# EAGLE library part MICRO-PHILIPS_TJA1040T (library eagle-template-export)
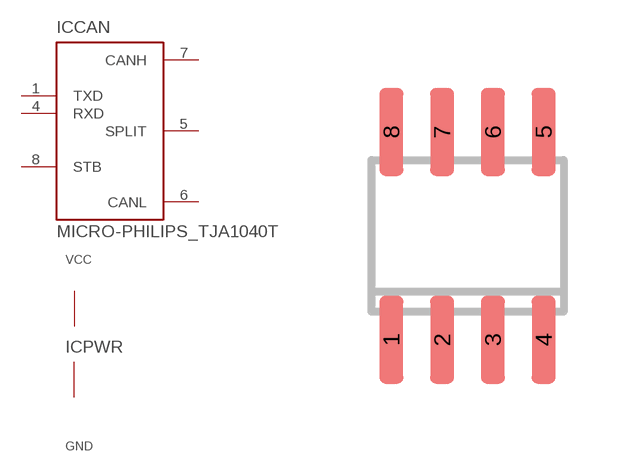
[diagram p8: symbol with the pads of MICRO-PHILIPS_SO8; footprint MICRO-PHILIPS_SO8]

Designator prefix IC; gates CAN=MICRO-PHILIPS_TJA1040T PWR=MICRO-PHILIPS_PWR2

## MICRO-PHILIPS_TJA1040T  [MICRO-PHILIPS_SO8]
1  CAN:TXD
2  PWR:GND  pwr
3  PWR:VCC  pwr
4  CAN:RXD
5  CAN:SPLIT
6  CAN:CANL
7  CAN:CANH
8  CAN:STB

## Footprint MICRO-PHILIPS_SO8 (pad centres in mm)
Small Outline Package
smd 0.6 x 2.2: 1 -1.905,-2.6; 2 -0.635,-2.6; 3 0.635,-2.6; 4 1.905,-2.6; 5 1.905,2.6; 6 0.635,2.6; 7 -0.635,2.6; 8 -1.905,2.6